# Altium footprint library PowerMeter.PcbLib: 25 footprints (part 1 of 2)
Each footprint in its own frame and in the unit in brackets; x right, y up, seen from the top. Pads: shape width x height; smd on the part's side, far side on the other; paste and mask are expansions set on the pad; w line width, h text height; cw(c..) or ccw(c..) is an arc to the next point about the centre after c.
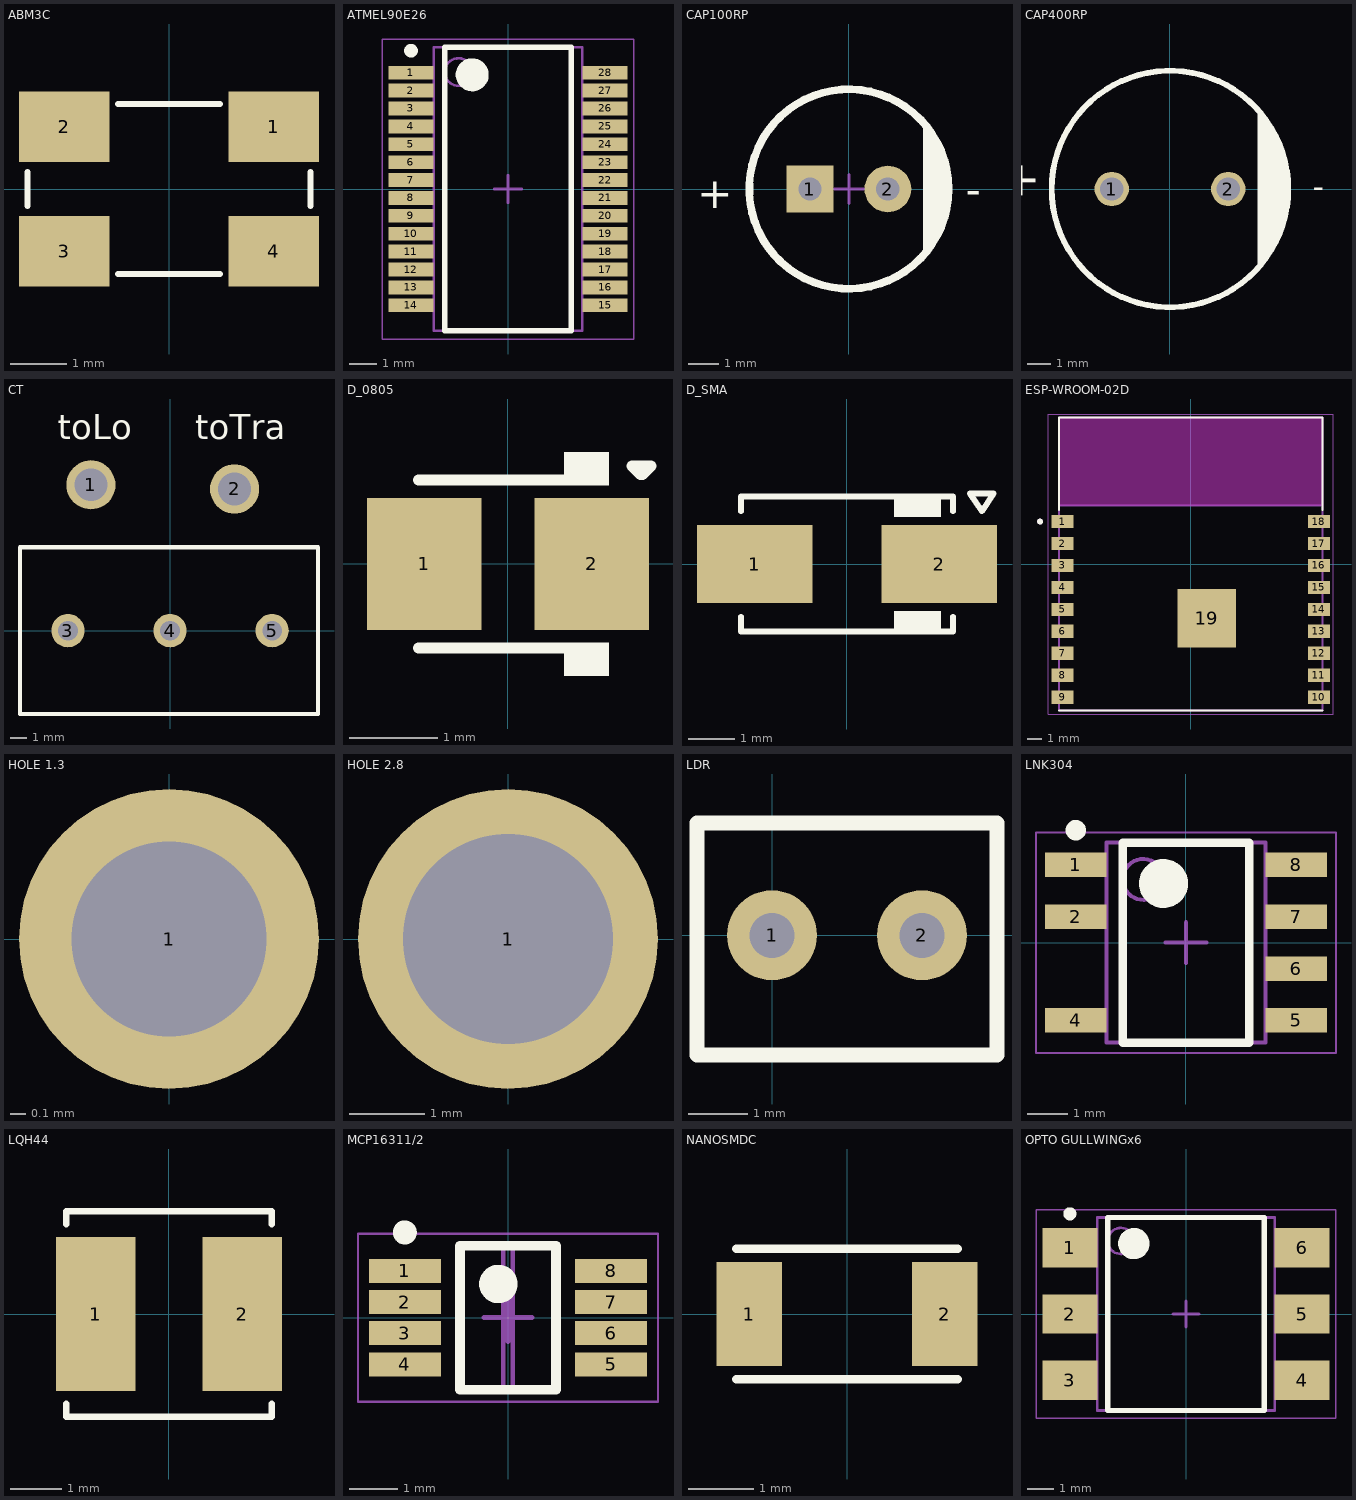
[diagram p0: the footprints below, top view; thin cyan lines are the x and y axes]

## ABM3C [mm]
pads (4):
  rect 1.6x1.25 smd: 1(1.85,1.1) 2(-1.85,1.1) 3(-1.85,-1.1) 4(1.85,-1.1)
Top Overlay:
  lines w0.102: -2.5,-0.3 -2.5,0.3 ; -0.9,-1.5 0.9,-1.5 ; -0.9,1.5 0.9,1.5 ; 2.5,-0.3 2.5,0.3
3D body "ABM3C.STEP": height 1.3, standoff 0, extent -2.5,-1.6 2.5,1.6

## ATMEL90E26 [mm] "Single-phase energy meter"
height 1.99
pads (28):
  rect 1.65x0.5 smd: 1(-3.525,4.225) 2(-3.525,3.575) 3(-3.525,2.925) 4(-3.525,2.275) 5(-3.525,1.625) 6(-3.525,0.975) 7(-3.525,0.325) 8(-3.525,-0.325) 9(-3.525,-0.975) 10(-3.525,-1.625) 11(-3.525,-2.275) 12(-3.525,-2.925) 13(-3.525,-3.575) 14(-3.525,-4.225) 15(3.525,-4.225) 16(3.525,-3.575) 17(3.525,-2.925) 18(3.525,-2.275) 19(3.525,-1.625) 20(3.525,-0.975) 21(3.525,-0.325) 22(3.525,0.325) 23(3.525,0.975) 24(3.525,1.625) 25(3.525,2.275) 26(3.525,2.925) 27(3.525,3.575) 28(3.525,4.225)
Top Overlay:
  circle w0.25: c-3.525,5.025 r0.125
  circle w0.6: c-1.3,4.15 r0.3
  lines w0.2: -2.3,-5.15 -2.3,5.15 2.3,5.15 2.3,-5.15 -2.3,-5.15
Mechanical 13:
  circle w0.1: c-1.8,4.25 r0.5
  lines w0.1: -2.7,-5.15 -2.7,5.15 2.7,5.15 2.7,-5.15 -2.7,-5.15
Mechanical 15:
  lines w0.05: -4.575,-5.45 -4.575,5.45 4.575,5.45 4.575,-5.45 -4.575,-5.45
  lines w0.1: -0.5,0 0.5,0 ; 0,-0.5 0,0.5
3D body "SOP65P780X199-28N.step": height 1.99, standoff 0, extent -3.888,-5.15 3.888,5.15

## CAP100RP [mil] "CAP_POL d=100"
pads (2):
  rect 60x60 hole 30: 1(-50,0)
  round 60 hole 30: 2(50,0)
Top Overlay:
  circle w10: c0,0 r127.95
  lines w10: 100,-80 100,80 ; 105,-70 105,65 ; 110,-60 110,55 ; 115,-55 115,45 ; 120,-40 120,30
  text "-" at 150,-20 h40
  text "+" at -195,-25 h40
Mechanical 15:
  lines w3.94: -18.7,0 18.7,0 ; 0,-18.7 0,18.7
3D body "User Library-Cap electro 6_3x11x2_5mm.step": height 453.76, standoff -118.67, extent -124,-125.02 126.03,125.02

## CAP400RP [mm]
pads (2):
  round 1.5 hole 1.016: 1(-2.54,0) 2(2.54,0)
Top Overlay:
  circle w0.254: c0,0 r5.157
  lines w0.254: 3.937,-3.302 3.937,3.302 ; 4.064,-3.048 4.064,3.048 ; 4.191,-2.921 4.191,2.794 ; 4.318,-2.667 4.318,2.667 ; 4.445,-2.413 4.445,2.413 ; 4.572,-2.032 4.572,2.032 ; 4.699,-1.778 4.699,1.778 ; 4.826,-1.524 4.826,1.524 ; 4.953,-1.016 4.953,1.016
  text "-" at 6.223,-0.381 h1.02
  text "+" at -5.842,-0.508 h1.52
3D body "SW3dPS-CAPPD10x15.STEP": height 15.01, standoff -1.26, extent -5.021,-5 5.004,5

## CT [mil] "Current transformer"
pads (5):
  round 118.11 hole 78.74: 1(-190,350) 2(155,340)
  round 80 hole 47.24: 3(-245,0) 4(0,0) 5(245,0)
Top Overlay:
  lines w10: -360,-200 355,-200 355,200 -360,200 -360,-200
  text "toTra" at 60,460 h60
  text "toLo" at -270,460 h60
3D body "zmct103c.stp": height 748.03, standoff -153.54, extent -354.33,-196.85 354.33,196.85

## D_0805 [mm]
pads (2):
  rect 1.3x1.5 smd: 1(-0.95,0) 2(0.95,0)
Top Overlay:
  rectangle: 0.635,0.889 1.143,1.27
  rectangle: 0.635,-1.27 1.143,-0.889
  lines w0.127: -1.016,-0.953 1.016,-0.953 ; -1.016,0.953 1.016,0.953 ; 1.405,1.111 1.5,1.016 1.524,1.016 1.619,1.111 1.405,1.111
3D body "User Library-User Library-led_0805 YEL.STEP": height 1.12, standoff -0.02, extent -1.01,-0.663 1.01,0.625

## D_SMA [mm]
height 2.4
pads (2):
  rect 2.5x1.7 smd: 1(-2,0) 2(2,0)
Top Overlay:
  rectangle: 1.016,1.016 2.032,1.524
  rectangle: 1.016,-1.524 2.032,-1.016
  lines w0.127: -2.3,-1.143 -2.3,-1.46 2.3,-1.46 2.3,-1.143 ; -2.3,1.143 -2.3,1.46 2.3,1.46 2.3,1.143 ; 2.667,1.524 3.175,1.524 2.921,1.143 2.667,1.524
3D body "User Library-DO-214AC(SMA).STEP": height 2.39, standoff 0.11, extent -2.743,-1.397 2.743,1.397

## ESP-WROOM-02D [mm] "Modulo wifi basado en el microcontrolador ESP8266"
pads (19):
  rect 1.5x0.9 smd: 1(-8.75,2.9) 2(-8.75,1.4) 3(-8.75,-0.1) 4(-8.75,-1.6) 5(-8.75,-3.1) 6(-8.75,-4.6) 7(-8.75,-6.1) 8(-8.75,-7.6) 9(-8.75,-9.1) 10(8.75,-9.1) 11(8.75,-7.6) 12(8.75,-6.1) 13(8.75,-4.6) 14(8.75,-3.1) 15(8.75,-1.6) 16(8.75,-0.1) 17(8.75,1.4) 18(8.75,2.9)
  rect 4x4 smd paste-3: 19(1.1,-3.71)
Top Overlay:
  circle w0.2: c-10.3,2.9 r0.1
  lines w0.127: -9,-10 9,-10 ; -9,3.67 -9,10 9,10 9,3.67
Top Paste:
  region: 2.365,-4.975 -0.165,-4.975 -0.165,-2.445 2.365,-2.445
Keep-Out Layer:
  region: 9,4 -9,4 -9,10 9,10
  region: 9,4 -9,4 -9,10 9,10
  region: 9,4 -9,4 -9,10 9,10
Mechanical 13:
  circle w0.2: c-10.3,2.9 r0.1
  lines w0.127: -9,4 -9,10 9,10 9,4 ; -9,4 -9,-10 9,-10 9,4 ; -9,4 9,4
Mechanical 15:
  lines w0.05: -9.75,-10.25 9.75,-10.25 9.75,10.25 -9.75,10.25 -9.75,-10.25
3D body "ESP-WROOM-02D--3DModel-STEP-56544.STEP": height 3.3, standoff 0, extent -9.017,-10 8.983,10

## HOLE 1.3 [mm] "IN=1.3mm; OUT=2mm"
pads (1):
  round 2 hole 1.3: 1(0,0)

## HOLE 2.8 [mm] "IN=2.8mm; OUT=4mm"
pads (1):
  round 4 hole 2.8: 1(0,0)

## LDR [mil] "Light Dependant Resistor"
pads (2):
  round 60 hole 30: 1(0,0) 2(100,0)
Top Overlay:
  lines w10: -50,-80 -50,75 150,75 150,-80 -50,-80
3D body "LDR-GL5516.step": height 480.31, standoff -858.27, extent -50,-79.22 147.79,79.22

## LNK304 [mm] "SOIC, 8-Leads, Body 4,90x3,90mm, Pitch 1,27mm, IPC Medium Density"
height 1.75
pads (7):
  rect 1.5x0.6 smd: 1(-2.7,1.905) 2(-2.7,0.635) 4(-2.7,-1.905) 5(2.7,-1.905) 6(2.7,-0.635) 7(2.7,0.635) 8(2.7,1.905)
Top Overlay:
  circle w0.25: c-2.7,2.755 r0.125
  circle w0.6: c-0.55,1.45 r0.3
  lines w0.2: -1.55,-2.45 -1.55,2.45 1.55,2.45 1.55,-2.45 -1.55,-2.45
Mechanical 13:
  circle w0.1: c-1.05,1.55 r0.5
  lines w0.1: -1.95,-2.45 -1.95,2.45 1.95,2.45 1.95,-2.45 -1.95,-2.45
Mechanical 15:
  lines w0.05: -3.675,-2.7 -3.675,2.7 3.675,2.7 3.675,-2.7 -3.675,-2.7
  lines w0.1: -0.5,0 0.5,0 ; 0,-0.5 0,0.5
3D body "SOIC127P600X175-8N.step": height 1.75, standoff 0, extent -3,-2.45 3,2.45

## LQH44 [mm]
pads (2):
  rect 1.55x3 smd: 1(-1.425,0) 2(1.425,0)
Top Overlay:
  lines w0.127: -2,-1.75 -2,-2 2,-2 2,-1.75 ; -2,1.75 -2,2 2,2 2,1.75
3D body "LQH44PN_P0.stp": height 1.65, standoff 0, extent -2,-1.997 2,1.998

## MCP16311/2 [mm] "MSOP-8"
height 1.1
pads (8):
  rect 1.5x0.5 smd: 1(-2.15,0.975) 2(-2.15,0.325) 3(-2.15,-0.325) 4(-2.15,-0.975) 5(2.15,-0.975) 6(2.15,-0.325) 7(2.15,0.325) 8(2.15,0.975)
Top Overlay:
  circle w0.4: c-0.2,0.7 r0.2
  circle w0.25: c-2.15,1.775 r0.125
  lines w0.2: -1,-1.5 1,-1.5 1,1.5 -1,1.5 -1,-1.5
Mechanical 13:
  lines w0.1: -0.1,-1.5 0.1,-1.5 0.1,1.5 -0.1,1.5 -0.1,-1.5
Mechanical 15:
  lines w0.05: -3.125,-1.75 3.125,-1.75 3.125,1.75 -3.125,1.75 -3.125,-1.75
  lines w0.1: -0.5,0 0.5,0 ; 0,-0.5 0,0.5
3D body "TSOP65P490X110-8N.step": height 1.1, standoff 0, extent -2.45,-1.5 2.45,1.5

## NANOSMDC [mm]
pads (2):
  rect 1x1.6 smd: 1(-1.5,0) 2(1.5,0)
Top Overlay:
  lines w0.127: -1.7,-1 1.7,-1 ; -1.7,1 1.7,1
3D body "User Library-FUSER_nanoSMD.STEP": height 1, standoff 0, extent -1.603,-0.8 1.603,0.8

## OPTO GULLWINGx6 [mm] "SOP, 6-Leads, Body 7,12x6,50mm, Pitch 2,54mm, IPC Medium Density"
height 4.6
pads (6):
  rect 2.1x1.5 smd: 1(-4.45,2.54) 2(-4.45,0) 3(-4.45,-2.54) 4(4.45,-2.54) 5(4.45,0) 6(4.45,2.54)
Top Overlay:
  circle w0.6: c-2,2.7 r0.3
  circle w0.25: c-4.45,3.84 r0.125
  lines w0.2: -3,-3.7 3,-3.7 3,3.7 -3,3.7 -3,-3.7
Mechanical 13:
  circle w0.1: c-2.5,2.8 r0.5
  lines w0.1: -3.4,-3.7 3.4,-3.7 3.4,3.7 -3.4,3.7 -3.4,-3.7
Mechanical 15:
  lines w0.05: -5.75,-4 5.75,-4 5.75,4 -5.75,4 -5.75,-4
  lines w0.1: -0.5,0 0.5,0 ; 0,-0.5 0,0.5
3D body "OPTO GULLWINGx6.step": height 4.6, standoff 0, extent -5,-3.7 5,3.7